# Altium schematic symbol library RT_SUPER__MK76__A.SCHLIB: 31 symbols
Pins are listed as number, name and electrical type; pins without a type are passive.

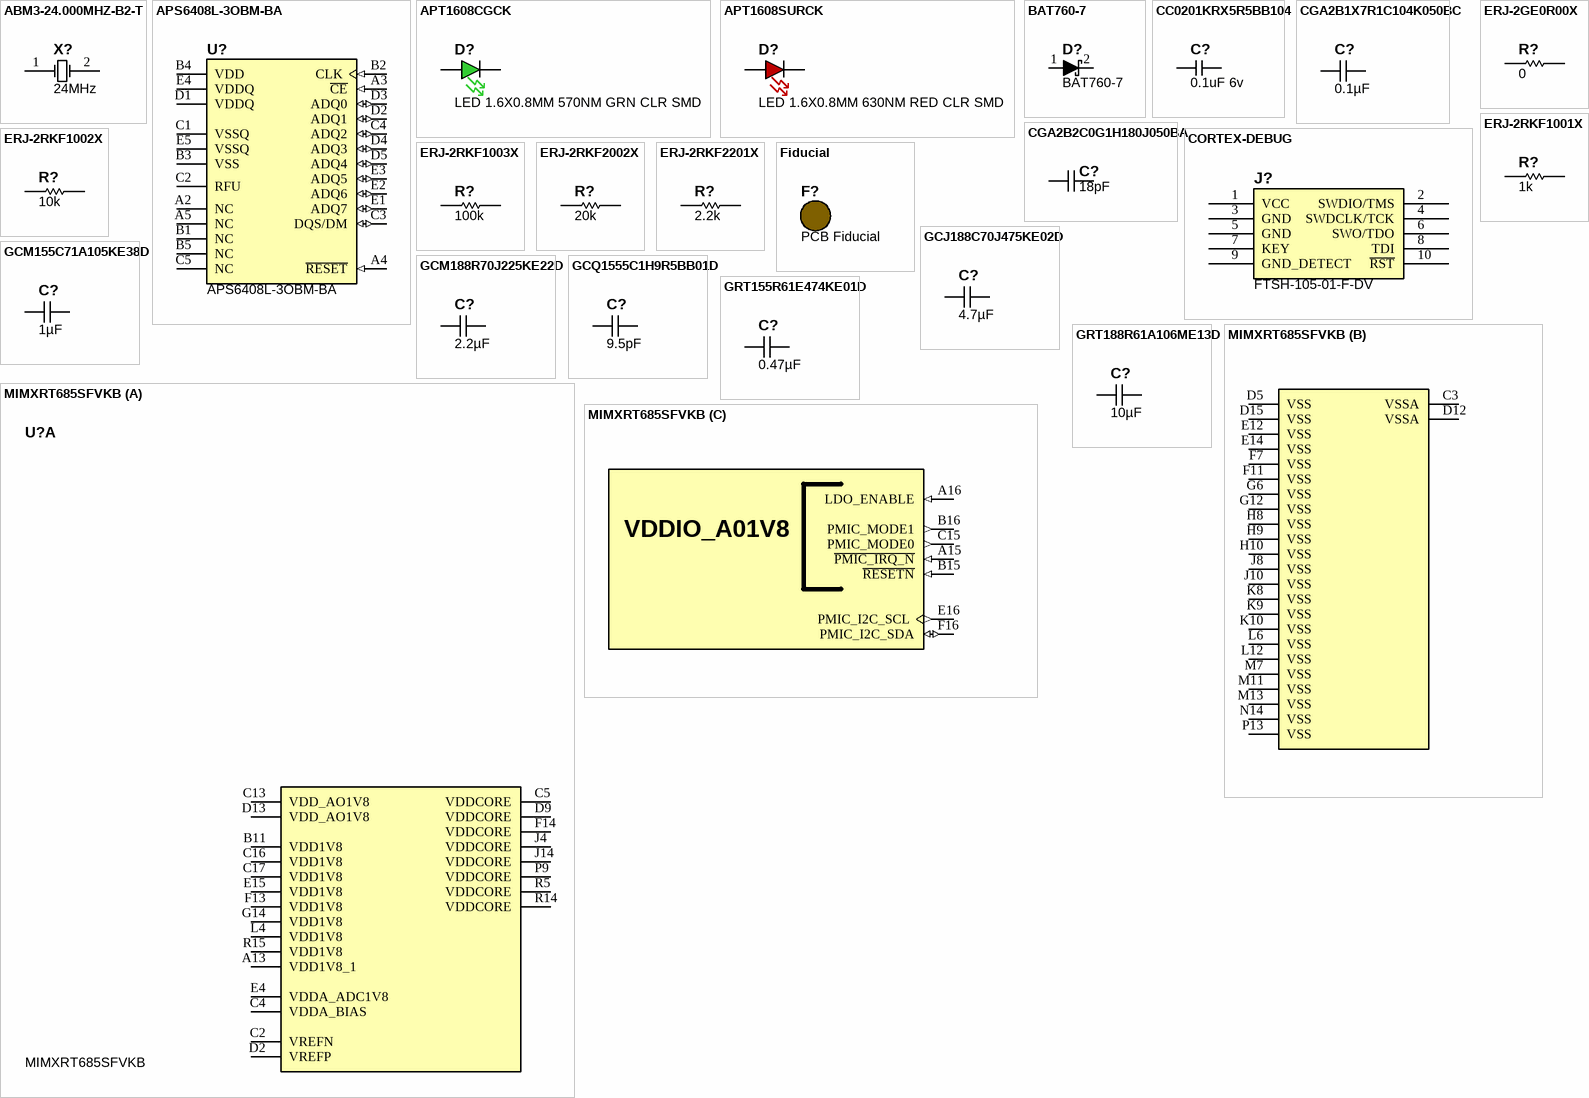
[diagram p0: symbols ABM3-24.000MHZ-B2-T to MIMXRT685SFVKB]

## ABM3-24.000MHZ-B2-T
designator X?, comment 24MHz
CRYSTAL 24.000MHZ 18PF SMD; Manufacturer: Abracon Corporation; Manufacturer Part Number: ABM3-24.000MHZ-B2-T; Frequency Stability: ±50ppm; Frequency Tolerance: ±20ppm; Operating Mode: Fundamental; Supplier 1: Digi-Key; RoHS: RoHS Compliant; Category: Crystals and Oscillators; Stock 1: 7349; Pricing 1: 1=1.43, 10=1.235, 50=1.083, 100=0.855, 500=0.722 (USD); Type: MHz Crystal; Frequency: 24MHz; Load Capacitance: 18pF; Operating Temperature: -20°C ~ 70°C; Mounting Type: Surface Mount; Package / Case: 2-SMD; Size / Dimension: 0.197" L x 0.126" W (5.00mm x 3.20mm); Height: 0.051" (1.30mm); Packaging: Cut Tape (CT); ComponentLink1URL: http://www.abracon.com/Resonators/abm3.pdf; ComponentLink1Description: http://www.abracon.com/Resonators/abm3.pdf; Supplier Part Number 1: 535-9106-1-ND; Value: 24MHz
footprint ABM3 (Abracon Crystal 5x3.2mm)
pins: 1 OSC1, 2 OSC2

## APS6408L-3OBM-BA
designator U?
3.3v Double-Data-Rate Octal SPI Xccela PSRAM; Manufacturer: AP Memory; Manufacturer Part Number: APS6408L-3OBM-BA; Availability: In Stock; Mouser_Link: https://eu.mouser.com/ProductDetail/AP-Memory/APS6408L-OBM-BA?qs=IS%252B4QmGtzzq1j2ngF%2F6ZwQ%3D%3D; Check_prices: https://eu.mouser.com/ProductDetail/AP-Memory/APS6408L-OBM-BA?qs=IS%252B4QmGtzzq1j2ngF%2F6ZwQ%3D%3D; Purchase-URL: https://eu.mouser.com/ProductDetail/AP-Memory/APS6408L-OBM-BA?qs=IS%252B4QmGtzzq1j2ngF%2F6ZwQ%3D%3D; Package: BGA-24; Price: 2,09 €; Value: APS6408L-3OBM-BA
footprint BGA24C100P5X5_600X800X120
pins: A2 NC, A3 ~{CE} (in), A4 ~{RESET} (in), A5 NC, B1 NC, B2 CLK (in), B3 VSS (power), B4 VDD (power), B5 NC, C1 VSSQ (power), C2 RFU, C3 DQS/DM (io), C4 ADQ2 (io), C5 NC, D1 VDDQ (power), D2 ADQ1 (io), D3 ADQ0 (io), D4 ADQ3 (io), D5 ADQ4 (io), E1 ADQ7 (io), E2 ADQ6 (io), E3 ADQ5 (io), E4 VDDQ (power), E5 VSSQ (power)

## APT1608CGCK
designator D?, comment LED 1.6X0.8MM 570NM GRN CLR SMD
Manufacturer: Kingbright Corp; Manufacturer Part Number: APT1608CGCK; Wavelength - Peak: 574nm; Millicandela Rating: 50mcd; Voltage - Forward (Vf) Typ: 2.1V; Viewing Angle: 120°; Color: Green; Current - Test: 20mA; Lens Type: Clear; Lens Style/Size: Rectangle with Flat Top, 1.2mm x 0.8mm; Value: LED 1.6X0.8MM 570NM GRN CLR SMD; RoHS: RoHS Compliant; Wavelength - Dominant: 570nm; Size / Dimension: 1.60mm L x 0.80mm W; Package / Case: 0603 (1608 Metric); Mounting Type: Surface Mount; Packaging: Tape & Reel (TR); Supplier 1: Digi-Key; Supplier Part Number 1: 754-1116-1-ND; Category: Optoelectronics; Stock 1: 89450; Pricing 1: 1=0.2, 10=0.153, 25=0.1224, 100=0.1105, 250=0.102, 500=0.0918 (USD); Height: 0.75mm; Luminous Flux @ Current - Test: -; ComponentLink1URL: http://www.us.kingbright.com/images/catalog/SPEC/APT1608CGCK.pdf; ComponentLink1Description: http://www.us.kingbright.com/images/catalog/SPEC/APT1608CGCK.pdf; Supplier 2: Digikey; Supplier Part Number 2: 160-2162-1-ND
footprint LED_0603 - GREEN
pins: A, C

## APT1608SURCK
designator D?, comment LED 1.6X0.8MM 630NM RED CLR SMD
Manufacturer: Kingbright Corp; Manufacturer Part Number: APT1608SURCK; Current - Test: 20mA; Wavelength - Peak: 650nm; Millicandela Rating: 220mcd; Voltage - Forward (Vf) Typ: 1.95V; Lens Type: Clear; Lens Style/Size: Rectangle, 1.2mm x 0.8mm; Viewing Angle: 120°; Value: LED 1.6X0.8MM 630NM RED CLR SMD; Supplier 1: Digi-Key; Supplier Part Number 1: 754-1123-1-ND; RoHS: RoHS Compliant; Category: Optoelectronics; Stock 1: 92099; Pricing 1: 1=0.16, 10=0.116, 25=0.0932, 100=0.0853, 250=0.07752, 500=0.06976, 1000=0.062 (USD); Color: Red; Luminous Flux @ Current - Test: -; Wavelength - Dominant: 630nm; Size / Dimension: 1.60mm L x 0.80mm W; Height: 0.75mm; Package / Case: 0603 (1608 Metric); Mounting Type: Surface Mount; Packaging: Cut Tape (CT); ComponentLink1URL: http://www.us.kingbright.com/images/catalog/SPEC/APT1608SURCK.pdf; ComponentLink1Description: http://www.us.kingbright.com/images/catalog/SPEC/APT1608SURCK.pdf
footprint LED_0603 - RED (LED_0603)
pins: A, C

## BAT760-7
designator D?
DIODE SCHOTTKY 30V 1A SOD323; Manufacturer: Diodes Inc; CategorySort: 400; Voltage - Forward (Vf) (Max) @ If: 550mV @ 1A; Speed: Fast Recovery =< 500ns- > 200mA (Io); Current - Reverse Leakage @ Vr: 50µA @ 15V; Capacitance @ Vr- F: 25pF @ 5V- 1MHz; Num Pins: 2; Diode Suffix: 1A_2C; Category: Diodes; Value: BAT760-7; Manufacturer Part Number: BAT760-7; ComponentLink1Description: Internal Datasheet; ComponentLink1URL: http://www.diodes.com/datasheets/ds30498.pdf; ComponentLink2Description: External Datasheet; ComponentLink2URL: http://www.diodes.com/datasheets/ds30498.pdf; Supplier 1: Digi-Key; Supplier Part Number 1: BAT760DICT-ND; SortValue: BAT760-7; Diode Type: Schottky; Voltage - DC Reverse (Vr) (Max): 30V; Current - Average Rectified (Io): 1A; Reverse Recovery Time (trr): -; Mounting Type: Surface Mount; Package: SC-76- SOD-323; Supplier Device Package: SOD-323; Packaging: Cut Tape (CT)
footprint D_SOD-323_P
footprint -
pins: 1 A, 2 K

## CC0201KRX5R5BB104
designator C?, comment 0.1uF 6v
Cap Ceramic 0.1uF 6.3VDC X5R 10% SMD 0201 Paper T/R; Manufacturer Part Number: CC0201KRX5R5BB104; Manufacturer: Yageo; Capacitance: 100nF; Voltage Rating: 6.3V; Value: 0.1uF 6v; ComponentLink1Description: https://datasheet.ciiva.com/176/mlccorderingcode-176765.pdf?src-supplier=Digi-Key; ComponentLink1URL: https://datasheet.ciiva.com/176/mlccorderingcode-176765.pdf?src-supplier=Digi-Key; ComponentLink2Description: https://datasheet.ciiva.com/176/mlccorderingcode-176766.pdf?src-supplier=Digi-Key; ComponentLink2URL: https://datasheet.ciiva.com/176/mlccorderingcode-176766.pdf?src-supplier=Digi-Key; Supplier 1: Digi-Key; Supplier Part Number 1: 311-1408-1-ND; Category: Ceramic Capacitors; Tolerance: 10%; RoHS: Yes; Stock: 2999877; Pricing: 1=0.10000, 10=0.02400, 50=0.01340, 100=0.01090, 500=0.00776, 1000=0.00610, 2500=0.00555, 5000=0.00510 (USD); Mount: Surface Mount; Case/Package: 0201; Number of Pins: 2; Case Code (Imperial): 0201; Case Code (Metric): 0603; Min Operating Temperature: -55°C; Max Operating Temperature: 85°C; Dielectric: X5R; Packaging: Tape and Reel; Package Quantity: 1; Voltage Rating (DC): 6.3V; Termination: SMD/SMT; Resistor Type: Ceramic; Series: CC; Length: 0.6mm; Width: 0.3mm; Height: 0.3mm; Thickness: 0.013inch; Depth: 0.3mm; REACH SVHC: No SVHC; Lead Free: Lead Free; Halogen Free: Halogen Free; RoHS Compliant: Yes; ComponentLink3URL: https://datasheet.ciiva.com/176/mlccorderingcode-176767.pdf?src-supplier=Digi-Key; ComponentLink3Description: https://datasheet.ciiva.com/176/mlccorderingcode-176767.pdf?src-supplier=Digi-Key; ComponentLink4URL: https://datasheet.ciiva.com/28450/1359354-28450200.pdf?src-supplier=Element14; ComponentLink4Description: https://datasheet.ciiva.com/28450/1359354-28450200.pdf?src-supplier=Element14; ComponentLink5URL: https://datasheet.ciiva.com/7656/1525783-7656597.pdf?src-supplier=Element14; ComponentLink5Description: https://datasheet.ciiva.com/7656/1525783-7656597.pdf?src-supplier=Element14
footprint CAPC0604X03L (Chip Capacitor, 2-Leads, Body 0.60x0.35mm, IPC High Density)
footprint CAPC0604X03M (Chip Capacitor, 2-Leads, Body 0.60x0.35mm, IPC Low Density)
footprint CAPC0604X03N (Chip Capacitor, 2-Leads, Body 0.60x0.35mm, IPC Medium Density)
footprint C0201_PERFECT (Chip Capacitor, 2-Leads, Body 0.60x0.35mm, IPC High https://www.worthingtonassembly.com/blog/2018/1/29/the-perfect-0201-footprint)
pins: 1, 2

## CGA2B1X7R1C104K050BC
designator C?, comment 0.1µF
CAP CER 0.1UF 16V X7R 0402; Manufacturer Part Number: CGA2B1X7R1C104K050BC; Manufacturer: TDK Corporation; Tolerance: ±10%; Substitution Notes: 0.1µF , 16V , ±10% , X7R , -55°C ~ 125°C , AEC-Q200 , 0402; Value: 0.1µF; Temperature Coefficient: X7R; ComponentLink1Description: Datasheet (Internal); ComponentLink1URL: datasheets\TDK\mlcc_automotive_general_en.pdf; ComponentLink2Description: Datasheet (External); ComponentLink2URL: https://product.tdk.com/info/en/catalog/datasheets/mlcc_automotive_general_en.pdf; Supplier 1: Digikey; Supplier Part Number 1: 445-5613-1-ND; Category: Capacitors; Voltage - Rated: 16V; Operating Temperature: -55°C ~ 125°C; Ratings: AEC-Q200; Package: 0402; Thickness (Max): 0.55MM; Features: -
footprint C0402_0.55MM_MD
footprint C0402_0.55MM_HD
footprint C0402_0.55MM_LD
pins: 1, 2 1

## CGA2B2C0G1H180J050BA
designator C?, comment 18pF
CAP CER 18PF 50V C0G 0402; Manufacturer Part Number: CGA2B2C0G1H180J050BA; Manufacturer: TDK Corporation; Temperature Coefficient: C0G, NP0; Tolerance: ±5%; Substitution Notes: 18pF , 50V , ±5% , C0G, NP0 , -55°C ~ 125°C , AEC-Q200 , 0402; Value: 18pF; ComponentLink1Description: Datasheet (Internal); ComponentLink1URL: datasheets\TDK\mlcc_automotive_general_en.pdf; ComponentLink2Description: Datasheet (External); ComponentLink2URL: https://product.tdk.com/info/en/catalog/datasheets/mlcc_automotive_general_en.pdf; Supplier 1: Digikey; Supplier Part Number 1: 445-5587-1-ND; Category: Capacitors; Voltage - Rated: 50V; Features: -; Operating Temperature: -55°C ~ 125°C; Ratings: AEC-Q200; Package: 0402; Thickness (Max): 0.55MM
footprint C0402_0.55MM_MD
footprint C0402_0.55MM_HD
footprint C0402_0.55MM_LD
pins: 1, 2 1

## CORTEX-DEBUG
designator J?, comment FTSH-105-01-F-DV
SAMTEC - FTSH-105-01-F-DV - .050 X .050; Value: FTSH-105-01-F-DV; Supplier 1: Newark; Manufacturer: SAMTEC; Manufacturer Part Number: FTSH-105-01-F-DV; Category: Connectors; Stock 1: 0; Pricing 1: 1=0.974, 25000=0.835, 50000=0.774 (USD); Supplier Part Number 1: 01R3399
footprint FTSH-105-04-F-DV - HD - NO_STEP (Connector for Cortex Serial Wire Debug)
footprint FTSH-105-04-F-DV - HD (Connector for Cortex Serial Wire Debug)
footprint FTSH-105-01-F-DV-K-A (Samtec FTSH-105-01-F-DV-K-A SMT Connector)
pins: 1 VCC, 2 SWDIO/TMS, 3 GND, 4 SWDCLK/TCK, 5 GND, 6 SWO/TDO, 7 KEY, 8 TDI, 9 GND_DETECT, 10 ~{RST}

## ERJ-2GE0R00X
designator R?, comment 0
RES 0.0 OHM 1/10W JUMP 0402 SMD; Manufacturer Part Number: ERJ-2GE0R00X; Manufacturer: Panasonic Electronic Components; Package Power: 0402  (0.1W); Power (Watts): 0.1W- 1/10W; Tolerance: Jumper; Limiting Element Voltage: 50; Maximum Overload Voltage: 100; Maximum Working Voltage: 0.0V; Substitution Notes: 0 , Jumper , 0402 , AEC-Q200; Value: 0; ComponentLink1Description: Internal Datasheet; ComponentLink1URL: datasheets\Panasonic Electronic Components\AOA0000CE1.pdf; ComponentLink2Description: External Datasheet; ComponentLink2URL: http://industrial.panasonic.com/www-data/pdf/AOA0000/AOA0000CE1.pdf; Supplier 1: Digi-Key; Supplier Part Number 1: P0.0JCT-ND; Category: Resistors; Resistance (Ohms): 0; Composition: Thick Film; Features: -; Temperature Coefficient: -; Package: 0402 (1005 Metric); Supplier Package: 0402; Size / Dimension: 0.039" L x 0.020" W (1.00mm x 0.50mm); Height: 0.40MM; Number of Terminations: 2; Sort Value: 0; Sort Value Package: 402_0; Ratings: AEC-Q200
footprint R0402_0.40MM_MD
footprint R0402_0.40MM_HD
footprint R0402_0.40MM_LD
pins: 1, 2

## ERJ-2RKF1001X
designator R?, comment 1k
RES 1K OHM 1/10W 1% 0402 SMD; Manufacturer Part Number: ERJ-2RKF1001X; Manufacturer: Panasonic Electronic Components; Package Power: 0402  (0.1W); Power (Watts): 0.1W- 1/10W; Temperature Coefficient: ±100ppm/°C; Limiting Element Voltage: 50; Maximum Overload Voltage: 100; Maximum Working Voltage: 10.0V; Substitution Notes: 1k , ±1% , 0402 , AEC-Q200; Value: 1k; ComponentLink1Description: Internal Datasheet; ComponentLink1URL: datasheets\Panasonic Electronic Components\AOA0000CE2.pdf; ComponentLink2Description: External Datasheet; ComponentLink2URL: http://industrial.panasonic.com/www-data/pdf/AOA0000/AOA0000CE2.pdf; Supplier 1: Digi-Key; Supplier Part Number 1: P1.00KLCT-ND; Category: Resistors; Resistance (Ohms): 1k; Composition: Thick Film; Features: -; Tolerance: ±1%; Package: 0402 (1005 Metric); Supplier Package: 0402; Size / Dimension: 0.039" L x 0.020" W (1.00mm x 0.50mm); Height: 0.40MM; Number of Terminations: 2; Packaging: Cut Tape (CT); Sort Value: 1000; Sort Value Package: 402_1000; Ratings: AEC-Q200
footprint R0402_0.40MM_MD
footprint R0402_0.40MM_HD
footprint R0402_0.40MM_LD
pins: 1, 2

## ERJ-2RKF1002X
designator R?, comment 10k
RES 10K OHM 1/10W 1% 0402 SMD; Manufacturer Part Number: ERJ-2RKF1002X; Manufacturer: Panasonic Electronic Components; Package Power: 0402  (0.1W); Power (Watts): 0.1W- 1/10W; Temperature Coefficient: ±100ppm/°C; Limiting Element Voltage: 50; Maximum Overload Voltage: 100; Maximum Working Voltage: 31.6V; Substitution Notes: 10k , ±1% , 0402 , AEC-Q200; Value: 10k; ComponentLink1Description: Internal Datasheet; ComponentLink1URL: datasheets\Panasonic Electronic Components\AOA0000CE2.pdf; ComponentLink2Description: External Datasheet; ComponentLink2URL: http://industrial.panasonic.com/www-data/pdf/AOA0000/AOA0000CE2.pdf; Supplier 1: Digi-Key; Supplier Part Number 1: P10.0KLCT-ND; Category: Resistors; Resistance (Ohms): 10k; Composition: Thick Film; Features: -; Tolerance: ±1%; Package: 0402 (1005 Metric); Supplier Package: 0402; Size / Dimension: 0.039" L x 0.020" W (1.00mm x 0.50mm); Height: 0.40MM; Number of Terminations: 2; Packaging: Cut Tape (CT); Sort Value: 10000; Sort Value Package: 402_10000; Ratings: AEC-Q200
footprint R0402_0.40MM_MD
footprint R0402_0.40MM_HD
footprint R0402_0.40MM_LD
pins: 1, 2

## ERJ-2RKF1003X
designator R?, comment 100k
RES 100K OHM 1/10W 1% 0402 SMD; Manufacturer Part Number: ERJ-2RKF1003X; Manufacturer: Panasonic Electronic Components; Package Power: 0402  (0.1W); Power (Watts): 0.1W- 1/10W; Temperature Coefficient: ±100ppm/°C; Limiting Element Voltage: 50; Maximum Overload Voltage: 100; Maximum Working Voltage: 50.0V; Substitution Notes: 100k , ±1% , 0402 , AEC-Q200; Value: 100k; ComponentLink1Description: Internal Datasheet; ComponentLink1URL: datasheets\Panasonic Electronic Components\AOA0000CE2.pdf; ComponentLink2Description: External Datasheet; ComponentLink2URL: http://industrial.panasonic.com/www-data/pdf/AOA0000/AOA0000CE2.pdf; Supplier 1: Digi-Key; Supplier Part Number 1: P100KLCT-ND; Category: Resistors; Resistance (Ohms): 100k; Composition: Thick Film; Features: -; Tolerance: ±1%; Package: 0402 (1005 Metric); Supplier Package: 0402; Size / Dimension: 0.039" L x 0.020" W (1.00mm x 0.50mm); Height: 0.40MM; Number of Terminations: 2; Packaging: Cut Tape (CT); Sort Value: 100000; Sort Value Package: 402_100000; Ratings: AEC-Q200
footprint R0402_0.40MM_MD
footprint R0402_0.40MM_HD
footprint R0402_0.40MM_LD
pins: 1, 2

## ERJ-2RKF2002X
designator R?, comment 20k
RES 20K OHM 1/10W 1% 0402 SMD; Manufacturer Part Number: ERJ-2RKF2002X; Manufacturer: Panasonic Electronic Components; Package Power: 0402  (0.1W); Power (Watts): 0.1W- 1/10W; Temperature Coefficient: ±100ppm/°C; Limiting Element Voltage: 50; Maximum Overload Voltage: 100; Maximum Working Voltage: 44.7V; Substitution Notes: 20k , ±1% , 0402 , AEC-Q200; Value: 20k; ComponentLink1Description: Internal Datasheet; ComponentLink1URL: datasheets\Panasonic Electronic Components\AOA0000CE2.pdf; ComponentLink2Description: External Datasheet; ComponentLink2URL: http://industrial.panasonic.com/www-data/pdf/AOA0000/AOA0000CE2.pdf; Supplier 1: Digi-Key; Supplier Part Number 1: P20.0KLCT-ND; Category: Resistors; Resistance (Ohms): 20k; Composition: Thick Film; Features: -; Tolerance: ±1%; Package: 0402 (1005 Metric); Supplier Package: 0402; Size / Dimension: 0.039" L x 0.020" W (1.00mm x 0.50mm); Height: 0.40MM; Number of Terminations: 2; Packaging: Cut Tape (CT); Sort Value: 20000; Sort Value Package: 402_20000; Ratings: AEC-Q200
footprint R0402_0.40MM_MD
footprint R0402_0.40MM_HD
footprint R0402_0.40MM_LD
pins: 1, 2

## ERJ-2RKF2201X
designator R?, comment 2.2k
RES 2.2K OHM 1/10W 1% 0402 SMD; Manufacturer Part Number: ERJ-2RKF2201X; Manufacturer: Panasonic Electronic Components; Package Power: 0402  (0.1W); Power (Watts): 0.1W- 1/10W; Temperature Coefficient: ±100ppm/°C; Limiting Element Voltage: 50; Maximum Overload Voltage: 100; Maximum Working Voltage: 14.8V; Substitution Notes: 2.2k , ±1% , 0402 , AEC-Q200; Value: 2.2k; ComponentLink1Description: Internal Datasheet; ComponentLink1URL: datasheets\Panasonic Electronic Components\AOA0000CE2.pdf; ComponentLink2Description: External Datasheet; ComponentLink2URL: http://industrial.panasonic.com/www-data/pdf/AOA0000/AOA0000CE2.pdf; Supplier 1: Digi-Key; Supplier Part Number 1: P2.20KLCT-ND; Category: Resistors; Resistance (Ohms): 2.2k; Composition: Thick Film; Features: -; Tolerance: ±1%; Package: 0402 (1005 Metric); Supplier Package: 0402; Size / Dimension: 0.039" L x 0.020" W (1.00mm x 0.50mm); Height: 0.40MM; Number of Terminations: 2; Packaging: Cut Tape (CT); Sort Value: 2200; Sort Value Package: 402_2200; Ratings: AEC-Q200
footprint R0402_0.40MM_MD
footprint R0402_0.40MM_HD
footprint R0402_0.40MM_LD
pins: 1, 2

## Fiducial
designator F?, comment PCB Fiducial  (no BOM)
Value: PCB Fiducial
footprint Fiducial 1mm - 2mm (1mm Pad 2mm Opening)
footprint Fiducial Target (Footprint not found)

## GCJ188C70J475KE02D
designator C?, comment 4.7µF
CAP CER 4.7UF 6.3V X7S 0603; Manufacturer Part Number: GCJ188C70J475KE02D; Manufacturer: Murata Electronics; Tolerance: ±10%; Substitution Notes: 4.7µF , 6.3V , ±10% , X7S , -55°C ~ 125°C , AEC-Q200 , 0603; Value: 4.7µF; Temperature Coefficient: X7S; ComponentLink1Description: Datasheet (Internal); ComponentLink1URL: https://search.murata.co.jp/Ceramy/image/img/A01X/G101/ENG/GCJ188C70J475KE02-01.pdf; ComponentLink2Description: Datasheet (External); ComponentLink2URL: https://search.murata.co.jp/Ceramy/image/img/A01X/G101/ENG/GCJ188C70J475KE02-01.pdf; Supplier 1: Digikey; Supplier Part Number 1: 490-16480-1-ND; Category: Capacitors; Voltage - Rated: 6.3V; Operating Temperature: -55°C ~ 125°C; Ratings: AEC-Q200; Package: 0603; Thickness (Max): 1.00MM
footprint C0603_1.00MM_MD
footprint C0603_1.00MM_HD
footprint C0603_1.00MM_LD
pins: 1, 2 1

## GCM155C71A105KE38D
designator C?, comment 1µF
CAP CER 1UF 10V X7S 0402; Manufacturer Part Number: GCM155C71A105KE38D; Manufacturer: Murata Electronics; Tolerance: ±10%; Substitution Notes: 1µF , 10V , ±10% , X7S , -55°C ~ 125°C , AEC-Q200 , 0402; Value: 1µF; Temperature Coefficient: X7S; ComponentLink1Description: Datasheet (Internal); ComponentLink1URL: https://www.murata.com/~/media/webrenewal/support/library/catalog/products/capacitor/mlcc/c03e.ashx?la=en-us; ComponentLink2Description: Datasheet (External); ComponentLink2URL: https://www.murata.com/~/media/webrenewal/support/library/catalog/products/capacitor/mlcc/c03e.ashx?la=en-us; Supplier 1: Digikey; Supplier Part Number 1: 490-13409-1-ND; Category: Capacitors; Voltage - Rated: 10V; Operating Temperature: -55°C ~ 125°C; Ratings: AEC-Q200; Package: 0402; Thickness (Max): 0.55MM
footprint C0402_0.55MM_MD
footprint C0402_0.55MM_HD
footprint C0402_0.55MM_LD
pins: 1, 2 1

## GCM188R70J225KE22D
designator C?, comment 2.2µF
CAP CER 2.2UF 6.3V X7R 0603; Manufacturer Part Number: GCM188R70J225KE22D; Manufacturer: Murata Electronics; Tolerance: ±10%; Substitution Notes: 2.2µF , 6.3V , ±10% , X7R , -55°C ~ 125°C , AEC-Q200 , 0603; Value: 2.2µF; Temperature Coefficient: X7R; ComponentLink1Description: Datasheet (Internal); ComponentLink1URL: https://search.murata.co.jp/Ceramy/image/img/A01X/G101/ENG/GCM188R70J225KE22-01.pdf; ComponentLink2Description: Datasheet (External); ComponentLink2URL: https://search.murata.co.jp/Ceramy/image/img/A01X/G101/ENG/GCM188R70J225KE22-01.pdf; Supplier 1: Digikey; Supplier Part Number 1: 490-5316-1-ND; Category: Capacitors; Voltage - Rated: 6.3V; Operating Temperature: -55°C ~ 125°C; Ratings: AEC-Q200; Package: 0603; Thickness (Max): 0.90MM
footprint C0603_0.90MM_MD
footprint C0603_0.90MM_HD
footprint C0603_0.90MM_LD
pins: 1, 2 1

## GCQ1555C1H9R5BB01D
designator C?, comment 9.5pF
CAP CER 9.5PF 50V C0G/NP0 0402; Manufacturer Part Number: GCQ1555C1H9R5BB01D; Manufacturer: Murata Electronics; Temperature Coefficient: C0G, NP0; Tolerance: ±0.1pF; Substitution Notes: 9.5pF , 50V , ±0.1pF , C0G, NP0 , -55°C ~ 125°C , AEC-Q200 , 0402; Value: 9.5pF; ComponentLink1Description: Datasheet (Internal); ComponentLink1URL: https://search.murata.co.jp/Ceramy/image/img/A01X/G101/ENG/GCQ1555C1H9R5BB01-01.pdf; ComponentLink2Description: Datasheet (External); ComponentLink2URL: https://search.murata.co.jp/Ceramy/image/img/A01X/G101/ENG/GCQ1555C1H9R5BB01-01.pdf; Supplier 1: Digikey; Supplier Part Number 1: 490-17528-1-ND; Category: Capacitors; Voltage - Rated: 50V; Operating Temperature: -55°C ~ 125°C; Ratings: AEC-Q200; Package: 0402; Thickness (Max): 0.55MM
footprint PERFECT_0402 (https://www.worthingtonassembly.com/perfect-0402-footprint)
footprint C0402_0.55MM_HD
footprint C0402_0.55MM_LD
pins: 1, 2 1

## GRT155R61E474KE01D
designator C?, comment 0.47µF
CAP CER 0.47UF 25V X5R 0402; Manufacturer Part Number: GRT155R61E474KE01D; Manufacturer: Murata Electronics; Tolerance: ±10%; Substitution Notes: 0.47µF , 25V , ±10% , X5R , -55°C ~ 85°C , AEC-Q200 , 0402; Value: 0.47µF; Temperature Coefficient: X5R; ComponentLink1Description: Datasheet (Internal); ComponentLink1URL: https://search.murata.co.jp/Ceramy/image/img/A01X/partnumbering_e_02.pdf; ComponentLink2Description: Datasheet (External); ComponentLink2URL: https://search.murata.co.jp/Ceramy/image/img/A01X/partnumbering_e_02.pdf; Supplier 1: Digikey; Supplier Part Number 1: 490-12269-1-ND; Category: Capacitors; Voltage - Rated: 25V; Operating Temperature: -55°C ~ 85°C; Ratings: AEC-Q200; Package: 0402; Thickness (Max): 0.55MM
footprint C0402_0.55MM_MD
footprint C0402_0.55MM_HD
footprint C0402_0.55MM_LD
pins: 1, 2 1

## GRT188R61A106ME13D
designator C?, comment 10µF
CAP CER 10UF 10V X5R 0603; Manufacturer Part Number: GRT188R61A106ME13D; Manufacturer: Murata Electronics; Tolerance: ±20%; Substitution Notes: 10µF , 10V , ±20% , X5R , -55°C ~ 85°C , AEC-Q200 , 0603; Value: 10µF; Temperature Coefficient: X5R; ComponentLink1Description: Datasheet (Internal); ComponentLink1URL: https://search.murata.co.jp/Ceramy/image/img/A01X/G101/ENG/GRT188R61A106ME13-01.pdf; ComponentLink2Description: Datasheet (External); ComponentLink2URL: https://search.murata.co.jp/Ceramy/image/img/A01X/G101/ENG/GRT188R61A106ME13-01.pdf; Supplier 1: Digikey; Supplier Part Number 1: 490-12312-1-ND; Category: Capacitors; Voltage - Rated: 10V; Operating Temperature: -55°C ~ 85°C; Ratings: AEC-Q200; Package: 0603; Thickness (Max): 0.90MM
footprint C0603_0.90MM_MD
footprint C0603_0.90MM_HD
footprint C0603_0.90MM_LD
pins: 1, 2 1

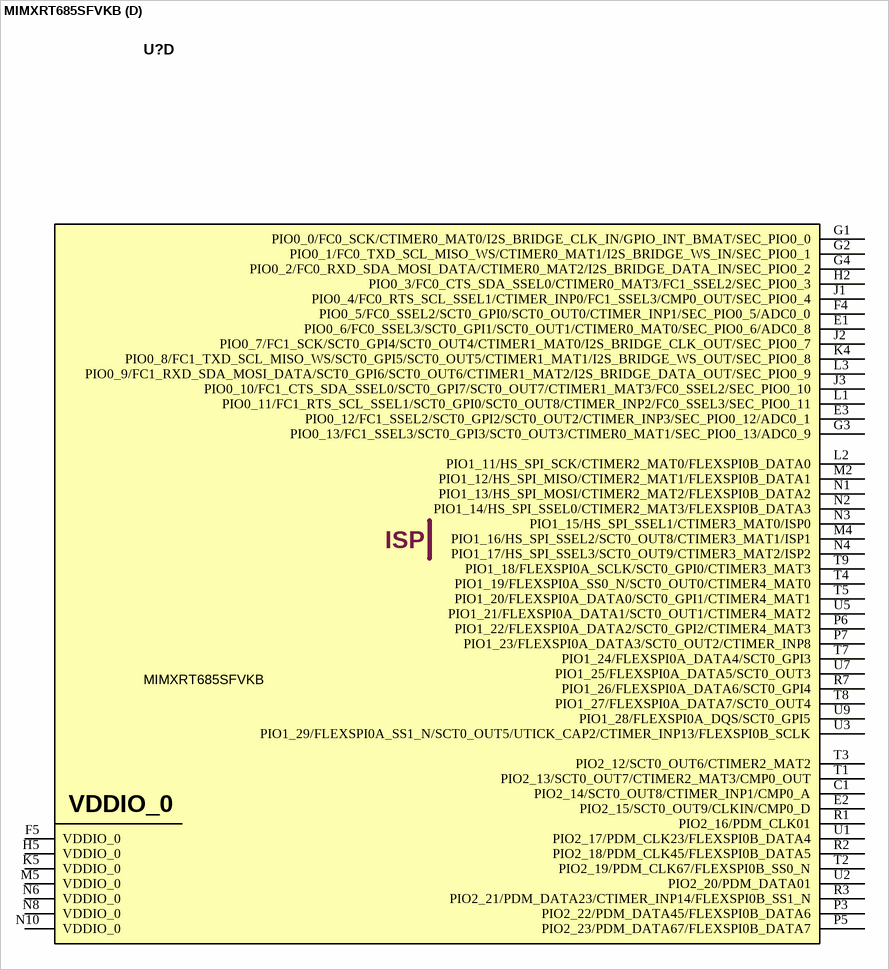
[diagram p1: symbol MIMXRT685SFVKB]

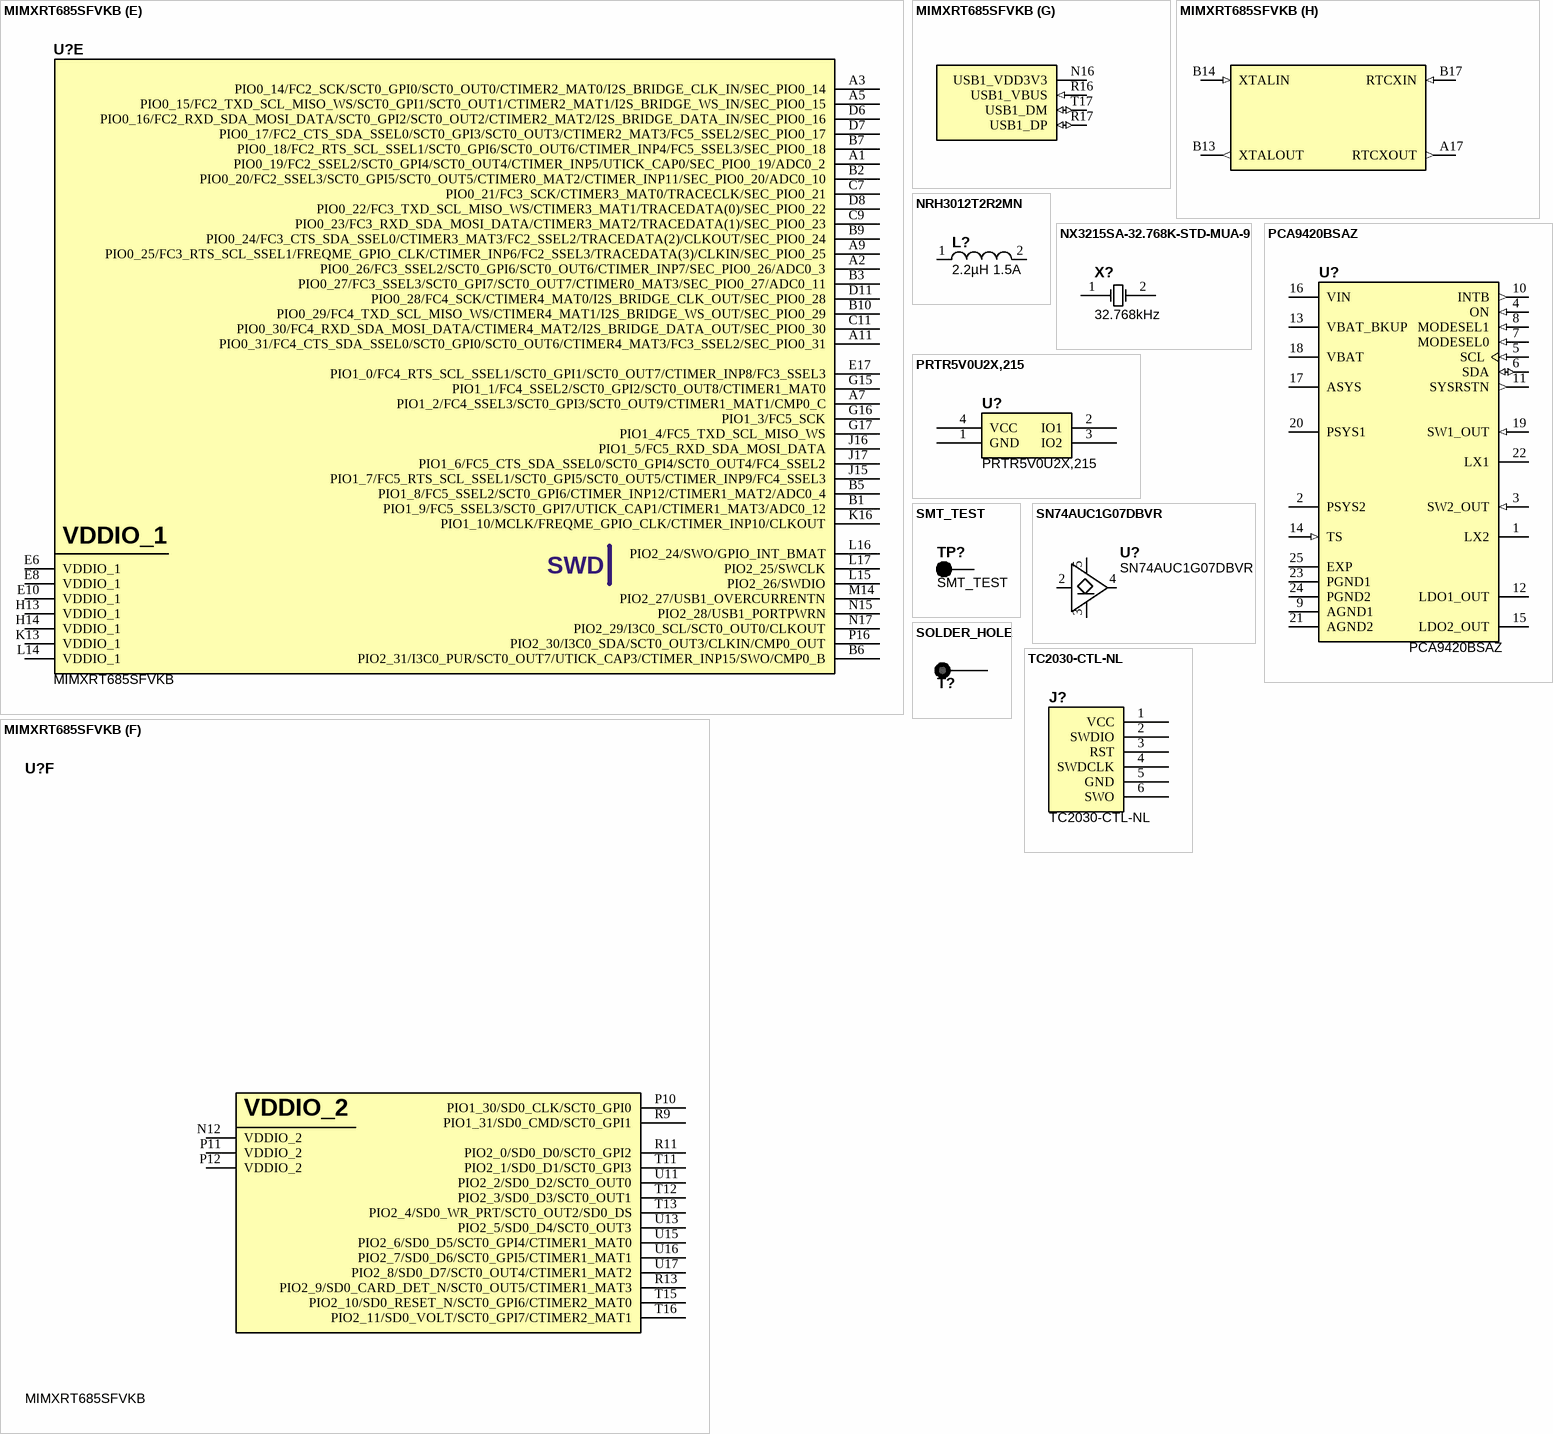
[diagram p2: symbols MIMXRT685SFVKB to TC2030‐CTL‐NL]

## MIMXRT685SFVKB
designator U?
SOC i.MX ARM Cortex M33 176-Pin VFBGA Tray; Manufacturer: NXP Semiconductors; Manufacturer Part Number: MIMXRT685SFVKB; Package: None; Availability: Warning; Value: MIMXRT685SFVKB; SnapEDA_Link: https://www.snapeda.com/parts/MIMXRT633SFVKB/Nexperia/view-part/5163781/?ref=snap; Price: None; Check_prices: https://www.snapeda.com/parts/MIMXRT633SFVKB/Nexperia/view-part/5163781/?ref=eda; Purchase-URL: https://pricing.snapeda.com/search/part/MIMXRT633SFVKB/?ref=eda
footprint VFBGA176
part A pins: A13 VDD1V8_1 (power), B11 VDD1V8 (power), C2 VREFN (power), C4 VDDA_BIAS (power), C5 VDDCORE (power), C13 VDD_AO1V8 (power), C16 VDD1V8 (power), C17 VDD1V8 (power), D2 VREFP (power), D9 VDDCORE (power), D13 VDD_AO1V8 (power), E4 VDDA_ADC1V8 (power), E15 VDD1V8 (power), F13 VDD1V8 (power), F14 VDDCORE (power), G14 VDD1V8 (power), J4 VDDCORE (power), J14 VDDCORE (power), L4 VDD1V8 (power), P9 VDDCORE (power), R5 VDDCORE (power), R14 VDDCORE (power), R15 VDD1V8 (power)
part B pins: C3 VSSA (power), D5 VSS (power), D12 VSSA (power), D15 VSS (power), E12 VSS (power), E14 VSS (power), F7 VSS (power), F11 VSS (power), G6 VSS (power), G12 VSS (power), H8 VSS (power), H9 VSS (power), H10 VSS (power), J8 VSS (power), J10 VSS (power), K8 VSS (power), K9 VSS (power), K10 VSS (power), L6 VSS (power), L12 VSS (power), M7 VSS (power), M11 VSS (power), M13 VSS (power), N14 VSS (power), P13 VSS (power)
part C pins: A15 ~{PMIC_IRQ_N} (in), A16 LDO_ENABLE (in), B15 ~{RESETN} (in), B16 PMIC_MODE1 (out), C15 PMIC_MODE0 (out), E16 PMIC_I2C_SCL (out), F16 PMIC_I2C_SDA (io)
part D pins: C1 PIO2_14/SCT0_OUT8/CTIMER_INP1/CMP0_A, E1 PIO0_6/FC0_SSEL3/SCT0_GPI1/SCT0_OUT1/CTIMER0_MAT0/SEC_PIO0_6/ADC0_8, E2 PIO2_15/SCT0_OUT9/CLKIN/CMP0_D, E3 PIO0_12/FC1_SSEL2/SCT0_GPI2/SCT0_OUT2/CTIMER_INP3/SEC_PIO0_12/ADC0_1, F4 PIO0_5/FC0_SSEL2/SCT0_GPI0/SCT0_OUT0/CTIMER_INP1/SEC_PIO0_5/ADC0_0, F5 VDDIO_0 (power), G1 PIO0_0/FC0_SCK/CTIMER0_MAT0/I2S_BRIDGE_CLK_IN/GPIO_INT_BMAT/SEC_PIO0_0, G2 PIO0_1/FC0_TXD_SCL_MISO_WS/CTIMER0_MAT1/I2S_BRIDGE_WS_IN/SEC_PIO0_1, G3 PIO0_13/FC1_SSEL3/SCT0_GPI3/SCT0_OUT3/CTIMER0_MAT1/SEC_PIO0_13/ADC0_9, G4 PIO0_2/FC0_RXD_SDA_MOSI_DATA/CTIMER0_MAT2/I2S_BRIDGE_DATA_IN/SEC_PIO0_2, H2 PIO0_3/FC0_CTS_SDA_SSEL0/CTIMER0_MAT3/FC1_SSEL2/SEC_PIO0_3, H5 VDDIO_0 (power), J1 PIO0_4/FC0_RTS_SCL_SSEL1/CTIMER_INP0/FC1_SSEL3/CMP0_OUT/SEC_PIO0_4, J2 PIO0_7/FC1_SCK/SCT0_GPI4/SCT0_OUT4/CTIMER1_MAT0/I2S_BRIDGE_CLK_OUT/SEC_PIO0_7, J3 PIO0_10/FC1_CTS_SDA_SSEL0/SCT0_GPI7/SCT0_OUT7/CTIMER1_MAT3/FC0_SSEL2/SEC_PIO0_10, K4 PIO0_8/FC1_TXD_SCL_MISO_WS/SCT0_GPI5/SCT0_OUT5/CTIMER1_MAT1/I2S_BRIDGE_WS_OUT/SEC_PIO0_8, K5 VDDIO_0 (power), L1 PIO0_11/FC1_RTS_SCL_SSEL1/SCT0_GPI0/SCT0_OUT8/CTIMER_INP2/FC0_SSEL3/SEC_PIO0_11, L2 PIO1_11/HS_SPI_SCK/CTIMER2_MAT0/FLEXSPI0B_DATA0, L3 PIO0_9/FC1_RXD_SDA_MOSI_DATA/SCT0_GPI6/SCT0_OUT6/CTIMER1_MAT2/I2S_BRIDGE_DATA_OUT/SEC_PIO0_9, M2 PIO1_12/HS_SPI_MISO/CTIMER2_MAT1/FLEXSPI0B_DATA1, M4 PIO1_16/HS_SPI_SSEL2/SCT0_OUT8/CTIMER3_MAT1/ISP1, M5 VDDIO_0 (power), N1 PIO1_13/HS_SPI_MOSI/CTIMER2_MAT2/FLEXSPI0B_DATA2, N2 PIO1_14/HS_SPI_SSEL0/CTIMER2_MAT3/FLEXSPI0B_DATA3, N3 PIO1_15/HS_SPI_SSEL1/CTIMER3_MAT0/ISP0, N4 PIO1_17/HS_SPI_SSEL3/SCT0_OUT9/CTIMER3_MAT2/ISP2, N6 VDDIO_0 (power), N8 VDDIO_0 (power), N10 VDDIO_0 (power), P3 PIO2_22/PDM_DATA45/FLEXSPI0B_DATA6, P5 PIO2_23/PDM_DATA67/FLEXSPI0B_DATA7, P6 PIO1_22/FLEXSPI0A_DATA2/SCT0_GPI2/CTIMER4_MAT3, P7 PIO1_23/FLEXSPI0A_DATA3/SCT0_OUT2/CTIMER_INP8, R1 PIO2_16/PDM_CLK01, R2 PIO2_18/PDM_CLK45/FLEXSPI0B_DATA5, R3 PIO2_21/PDM_DATA23/CTIMER_INP14/FLEXSPI0B_SS1_N, R7 PIO1_26/FLEXSPI0A_DATA6/SCT0_GPI4, T1 PIO2_13/SCT0_OUT7/CTIMER2_MAT3/CMP0_OUT, T2 PIO2_19/PDM_CLK67/FLEXSPI0B_SS0_N, T3 PIO2_12/SCT0_OUT6/CTIMER2_MAT2, T4 PIO1_19/FLEXSPI0A_SS0_N/SCT0_OUT0/CTIMER4_MAT0, T5 PIO1_20/FLEXSPI0A_DATA0/SCT0_GPI1/CTIMER4_MAT1, T7 PIO1_24/FLEXSPI0A_DATA4/SCT0_GPI3, T8 PIO1_27/FLEXSPI0A_DATA7/SCT0_OUT4, T9 PIO1_18/FLEXSPI0A_SCLK/SCT0_GPI0/CTIMER3_MAT3, U1 PIO2_17/PDM_CLK23/FLEXSPI0B_DATA4, U2 PIO2_20/PDM_DATA01, U3 PIO1_29/FLEXSPI0A_SS1_N/SCT0_OUT5/UTICK_CAP2/CTIMER_INP13/FLEXSPI0B_SCLK, U5 PIO1_21/FLEXSPI0A_DATA1/SCT0_OUT1/CTIMER4_MAT2, U7 PIO1_25/FLEXSPI0A_DATA5/SCT0_OUT3, U9 PIO1_28/FLEXSPI0A_DQS/SCT0_GPI5
part E pins: A1 PIO0_19/FC2_SSEL2/SCT0_GPI4/SCT0_OUT4/CTIMER_INP5/UTICK_CAP0/SEC_PIO0_19/ADC0_2, A2 PIO0_26/FC3_SSEL2/SCT0_GPI6/SCT0_OUT6/CTIMER_INP7/SEC_PIO0_26/ADC0_3, A3 PIO0_14/FC2_SCK/SCT0_GPI0/SCT0_OUT0/CTIMER2_MAT0/I2S_BRIDGE_CLK_IN/SEC_PIO0_14, A5 PIO0_15/FC2_TXD_SCL_MISO_WS/SCT0_GPI1/SCT0_OUT1/CTIMER2_MAT1/I2S_BRIDGE_WS_IN/SEC_PIO0_15, A7 PIO1_2/FC4_SSEL3/SCT0_GPI3/SCT0_OUT9/CTIMER1_MAT1/CMP0_C, A9 PIO0_25/FC3_RTS_SCL_SSEL1/FREQME_GPIO_CLK/CTIMER_INP6/FC2_SSEL3/TRACEDATA(3)/CLKIN/SEC_PIO0_25, A11 PIO0_31/FC4_CTS_SDA_SSEL0/SCT0_GPI0/SCT0_OUT6/CTIMER4_MAT3/FC3_SSEL2/SEC_PIO0_31, B1 PIO1_9/FC5_SSEL3/SCT0_GPI7/UTICK_CAP1/CTIMER1_MAT3/ADC0_12, B2 PIO0_20/FC2_SSEL3/SCT0_GPI5/SCT0_OUT5/CTIMER0_MAT2/CTIMER_INP11/SEC_PIO0_20/ADC0_10, B3 PIO0_27/FC3_SSEL3/SCT0_GPI7/SCT0_OUT7/CTIMER0_MAT3/SEC_PIO0_27/ADC0_11, B5 PIO1_8/FC5_SSEL2/SCT0_GPI6/CTIMER_INP12/CTIMER1_MAT2/ADC0_4, B6 PIO2_31/I3C0_PUR/SCT0_OUT7/UTICK_CAP3/CTIMER_INP15/SWO/CMP0_B, B7 PIO0_18/FC2_RTS_SCL_SSEL1/SCT0_GPI6/SCT0_OUT6/CTIMER_INP4/FC5_SSEL3/SEC_PIO0_18, B9 PIO0_24/FC3_CTS_SDA_SSEL0/CTIMER3_MAT3/FC2_SSEL2/TRACEDATA(2)/CLKOUT/SEC_PIO0_24, B10 PIO0_29/FC4_TXD_SCL_MISO_WS/CTIMER4_MAT1/I2S_BRIDGE_WS_OUT/SEC_PIO0_29, C7 PIO0_21/FC3_SCK/CTIMER3_MAT0/TRACECLK/SEC_PIO0_21, C9 PIO0_23/FC3_RXD_SDA_MOSI_DATA/CTIMER3_MAT2/TRACEDATA(1)/SEC_PIO0_23, C11 PIO0_30/FC4_RXD_SDA_MOSI_DATA/CTIMER4_MAT2/I2S_BRIDGE_DATA_OUT/SEC_PIO0_30, D6 PIO0_16/FC2_RXD_SDA_MOSI_DATA/SCT0_GPI2/SCT0_OUT2/CTIMER2_MAT2/I2S_BRIDGE_DATA_IN/SEC_PIO0_16, D7 PIO0_17/FC2_CTS_SDA_SSEL0/SCT0_GPI3/SCT0_OUT3/CTIMER2_MAT3/FC5_SSEL2/SEC_PIO0_17, D8 PIO0_22/FC3_TXD_SCL_MISO_WS/CTIMER3_MAT1/TRACEDATA(0)/SEC_PIO0_22, D11 PIO0_28/FC4_SCK/CTIMER4_MAT0/I2S_BRIDGE_CLK_OUT/SEC_PIO0_28, E6 VDDIO_1 (power), E8 VDDIO_1 (power), E10 VDDIO_1 (power), E17 PIO1_0/FC4_RTS_SCL_SSEL1/SCT0_GPI1/SCT0_OUT7/CTIMER_INP8/FC3_SSEL3, G15 PIO1_1/FC4_SSEL2/SCT0_GPI2/SCT0_OUT8/CTIMER1_MAT0, G16 PIO1_3/FC5_SCK, G17 PIO1_4/FC5_TXD_SCL_MISO_WS, H13 VDDIO_1 (power), H14 VDDIO_1 (power), J15 PIO1_7/FC5_RTS_SCL_SSEL1/SCT0_GPI5/SCT0_OUT5/CTIMER_INP9/FC4_SSEL3, J16 PIO1_5/FC5_RXD_SDA_MOSI_DATA, J17 PIO1_6/FC5_CTS_SDA_SSEL0/SCT0_GPI4/SCT0_OUT4/FC4_SSEL2, K13 VDDIO_1 (power), K16 PIO1_10/MCLK/FREQME_GPIO_CLK/CTIMER_INP10/CLKOUT, L14 VDDIO_1 (power), L15 PIO2_26/SWDIO, L16 PIO2_24/SWO/GPIO_INT_BMAT, L17 PIO2_25/SWCLK, M14 PIO2_27/USB1_OVERCURRENTN, N15 PIO2_28/USB1_PORTPWRN, N17 PIO2_29/I3C0_SCL/SCT0_OUT0/CLKOUT, P16 PIO2_30/I3C0_SDA/SCT0_OUT3/CLKIN/CMP0_OUT
part F pins: N12 VDDIO_2 (power), P10 PIO1_30/SD0_CLK/SCT0_GPI0, P11 VDDIO_2 (power), P12 VDDIO_2 (power), R9 PIO1_31/SD0_CMD/SCT0_GPI1, R11 PIO2_0/SD0_D0/SCT0_GPI2, R13 PIO2_9/SD0_CARD_DET_N/SCT0_OUT5/CTIMER1_MAT3, T11 PIO2_1/SD0_D1/SCT0_GPI3, T12 PIO2_3/SD0_D3/SCT0_OUT1, T13 PIO2_4/SD0_WR_PRT/SCT0_OUT2/SD0_DS, T15 PIO2_10/SD0_RESET_N/SCT0_GPI6/CTIMER2_MAT0, T16 PIO2_11/SD0_VOLT/SCT0_GPI7/CTIMER2_MAT1, U11 PIO2_2/SD0_D2/SCT0_OUT0, U13 PIO2_5/SD0_D4/SCT0_OUT3, U15 PIO2_6/SD0_D5/SCT0_GPI4/CTIMER1_MAT0, U16 PIO2_7/SD0_D6/SCT0_GPI5/CTIMER1_MAT1, U17 PIO2_8/SD0_D7/SCT0_OUT4/CTIMER1_MAT2
part G pins: N16 USB1_VDD3V3 (power), R16 USB1_VBUS (in), R17 USB1_DP (io), T17 USB1_DM (io)
part H pins: A17 RTCXOUT (out), B13 XTALOUT (out), B14 XTALIN (in), B17 RTCXIN (in)
part C text: VDDIO_A01V8
part D text: ISP
part E text: SWD

## NRH3012T2R2MN
designator L?, comment 2.2µH 1.5A
Inductor 2.2µH 1.5A; Manufacturer Part Number: NRH3012T2R2MN; Manufacturer: Taiyo Yuden; CategorySort: 300; Inductance (uH): 2.2; Tolerance: ±20%; DCR Max (Ohms): 90 mOhm Max; SRF typ (MHz): 78MHz; Isat (A): 1.5; IRMS: 1.37; Shielding: Sheilded; Category: Inductors; Value: 2.2µH 1.5A; ComponentLink1Description: External Datasheet; ComponentLink1URL: https://www.yuden.co.jp/productdata/catalog/en/wound04_e.pdf; Sort Value: 2.2_1.5; Sort Value Package: 2.2_1.5_NRH3012; Part Number: NRH3012T2R2MN; Supplier 1: Digikey; Supplier Part Number 1: 587-2589-1-ND; Supplier Unit Price 1: 0.28; Package: NRH3012; Height (mm): 1.2MM; Rating: -
footprint L_NRH3012
pins: 1, 2

## NX3215SA-32.768K-STD-MUA-9
designator X?, comment 32.768kHz
CRYSTAL 32.768KHZ 9PF SMD; Manufacturer: NDK; Manufacturer Part Number: NX3215SA-32.768K-STD-MUA-9; Frequency Tolerance: 20ppm; ESR (Equivalent Series Resistance): 70kR; Value: 32.768kHz; Supplier 1: Digi-Key; Supplier Part Number 1: 644-1155-6-ND; Stock 1: 39338; Pricing 1: 1=0.68, 10=0.602, 50=0.5628, 100=0.4974, 500=0.47124, 1000=0.3927 (USD); Mount: Surface Mount; Case/Package: SMD/SMT; Number of Pins: 2; Min Operating Temperature: -40°C; Max Operating Temperature: 85°C; Frequency: 32.768kHz; Package Quantity: 1000; Load Capacitance: 9pF; Packaging: Tape and Reel; Length: 0.126inch; Height: 0.035inch; Width: 0.059inch; Lead Free: Lead Free
footprint XTAL_3215 (XTAL SMD 3.2 x 1.5 mm)
pins: 1 OSC1, 2 OSC2

## PCA9420BSAZ
designator U?
Power Management IC for Low-Power Microcontroller Applications 24-Pin HVQFN; Manufacturer: NXP Semiconductors; Check_prices: https://www.snapeda.com/parts/PCA9420BSAZ/NXP%20Semiconductors/view-part/5003095/?ref=eda; SnapEDA_Link: https://www.snapeda.com/parts/PCA9420BSAZ/NXP%20Semiconductors/view-part/5003095/?ref=snap; Value: *; Supplier 1: Mouser; Supplier Part Number 1: 771-PCA9420BSAZ; Manufacturer Part Number: PCA9420BSAZ; RoHS: Yes; Stock: 953; Pricing: 1=3.09000, 10=2.78000, 50=2.63000, 100=2.28000, 1000=2.23000, 10000=2.20000 (USD); RoHS Compliant: Yes
footprint PCA9420
pins: 1 LX2 (power), 2 PSYS2 (power), 3 SW2_OUT (in), 4 ON (in), 5 SCL (in), 6 SDA (io), 7 MODESEL0 (in), 8 MODESEL1 (in), 9 AGND1 (power), 10 INTB (out), 11 SYSRSTN (out), 12 LDO1_OUT (power), 13 VBAT_BKUP (power), 14 TS (in), 15 LDO2_OUT (power), 16 VIN (power), 17 ASYS (power), 18 VBAT (power), 19 SW1_OUT (in), 20 PSYS1 (power), 21 AGND2 (power), 22 LX1 (power), 23 PGND1 (power), 24 PGND2 (power), 25 EXP (power)

## PRTR5V0U2X,215
designator U?
TVS DIODE 5.5VWM SOT143B; Manufacturer: NXP Semiconductors; Bidirectional Channels: 2; Voltage - Reverse Standoff (Typ): 5.5V (Max); Voltage - Breakdown (Min): 6V; Power Line Protection: Yes; Capacitance @ Frequency: 1pF @ 1MHz; Supplier 1: Digi-Key; Supplier Part Number 1: 568-4140-1-ND; Manufacturer Part Number: PRTR5V0U2X,215; RoHS: RoHS Compliant; Category: Circuit Protection; Stock: 11734; Pricing: 1=0.57, 10=0.477, 25=0.418, 100=0.3578, 250=0.31036, 500=0.26286, 1000=0.20265 (USD); Packaging: Cut Tape (CT); Type: Steering (Rail to Rail); Unidirectional Channels: -; Voltage - Clamping (Max) @ Ipp: -; Current - Peak Pulse (10/1000µs): -; Power - Peak Pulse: -; Applications: General Purpose; Operating Temperature: -40°C ~ 85°C (TA); Mounting Type: Surface Mount; Package / Case: TO-253-4, TO-253AA; Supplier Device Package: SOT-143B; ComponentLink1URL: http://www.nxp.com/documents/data_sheet/PRTR5V0U2X.pdf; ComponentLink1Description: http://www.nxp.com/documents/data_sheet/PRTR5V0U2X.pdf; Value: PRTR5V0U2X,215
footprint SOT143B
pins: 1 GND, 2 IO1, 3 IO2, 4 VCC
1 alternate drawing of the same symbol

## SMT_TEST
designator TP?  (no BOM)
Value: SMT_TEST
footprint SMT_TP - 35 (.035" SMT Test pad)
footprint SMT_TP - 25 (.025" SMT Test pad)
footprint SMT_TP - 50 (.050" SMT Test pad)
footprint SMT_TP - 75 (.075" SMT Test pad)
footprint SMT_TP - 100 (.100" SMT Test pad)
footprint SMT_TP - 20 (.020" SMT Test pad)
footprint SMT_TP - 25 x 50 (.025" x .050" SMT Test pad)
pins: 1

## SN74AUC1G07DBVR
designator U?
IC BUFF NON-INVERT 2.7 V SOT23-5; Manufacturer: Texas Instruments; Max Supply Voltage: 2.7V; Min Supply Voltage: 800mV; Propagation Delay: 1.7ns; Logic Function: Buffer,Inverting; Number of Elements: 1; Low Level Output Current: 9mA; Polarity: Non-Inverting; Turn-On Delay Time: 3.3ns; Quiescent Current: 10uA; Value: SN74AUC1G07DBVR; Supplier 1: Digi-Key; Supplier Part Number 1: 296-12463-1-ND; Manufacturer Part Number: SN74AUC1G07DBVR; RoHS: Yes; Category: Buffers, Drivers and Transceivers; Stock: 6487; Pricing: 1=0.41000, 10=0.32900, 25=0.30080, 100=0.22390, 250=0.20288, 500=0.16790, 1000=0.12593 (USD); Mount: Surface Mount; Case/Package: SOT-23-5; Number of Pins: 5; Min Operating Temperature: -40°C; Max Operating Temperature: 85°C; Packaging: Tape and Reel; Package Quantity: 3000; Number of Channels: 1; Number of Inputs: 1; Number of Outputs: 1; Number of Bits per Element: 1; Number of Input Lines: 1; Number of Output Lines: 1; Number of Gates: 1; Number of Bits: 1; Series: 74AUC; Technology: CMOS; High Level Output Current: 9mA; Radiation Hardening: No; Lead Free: Lead Free; RoHS Compliant: Yes; REACH SVHC: Unknown; ComponentLink1URL: https://datasheet.ciiva.com/1833/sn74auc1g07-1833760.pdf?src-supplier=Digi-Key; ComponentLink1Description: https://datasheet.ciiva.com/1833/sn74auc1g07-1833760.pdf?src-supplier=Digi-Key; ComponentLink2URL: https://datasheet.ciiva.com/14302/sces373q-14302179.pdf?src-supplier=Avnet; ComponentLink2Description: https://datasheet.ciiva.com/14302/sces373q-14302179.pdf?src-supplier=Avnet; ComponentLink3URL: https://datasheet.ciiva.com/15094/getdatasheetpartid-69632-15094449.pdf?src-supplier=Verical; ComponentLink3Description: https://datasheet.ciiva.com/15094/getdatasheetpartid-69632-15094449.pdf?src-supplier=Verical; ComponentLink4URL: https://datasheet.ciiva.com/1833/sn74auc1g07-1833761.pdf?src-supplier=Digi-Key; ComponentLink4Description: https://datasheet.ciiva.com/1833/sn74auc1g07-1833761.pdf?src-supplier=Digi-Key; ComponentLink5URL: https://datasheet.ciiva.com/1833/sn74auc1g07-1833762.pdf?src-supplier=Digi-Key; ComponentLink5Description: https://datasheet.ciiva.com/1833/sn74auc1g07-1833762.pdf?src-supplier=Digi-Key; ComponentLink6URL: https://datasheet.ciiva.com/14302/sces373q-14302175.pdf?src-supplier=Avnet; ComponentLink6Description: https://datasheet.ciiva.com/14302/sces373q-14302175.pdf?src-supplier=Avnet
footprint SOT23-5 (SOT23, 5-Leads, Body 3.1x2.6mm (max), Pitch 0.95mm, IPC High Density)
pins: 2 A, 3 GND, 4 Y, 5 VCC

## SOLDER_HOLE
designator T?  (value not drawn)  (no BOM)
footprint MACHINE_PIN_SOLDERHOLE
footprint SOLDER_HOLE -  18AWG
footprint SOLDER_HOLE -  24AWG
footprint SOLDER_HOLE -  14AWG
footprint SOLDER_HOLE -  12AWG (Footprint not found)
footprint SOLDER_HOLE -  22AWG
footprint SOLDER_HOLE -  12AWG - OBLONG
pins: 1

## TC2030‐CTL‐NL
designator J?  (no BOM)
Tag Connect Pads - No latching Clips - ARM; Value: TC2030‐CTL‐NL
footprint TC2030 NO LATCH (TC2030  NO LATCH)
footprint TC2030 DOUBLE SIDED NO LATCH (TC2030 Double Sided No Latch)
footprint TC2030 DOUBLE SIDED (TC2030 Double Sided)
footprint TC2030 (TC2030-MCP)
pins: 1 VCC, 2 SWDIO, 3 RST, 4 SWDCLK, 5 GND, 6 SWO